# EAGLE library part 6PIN (library connectors)
6pin 2.5mm 0.1inch
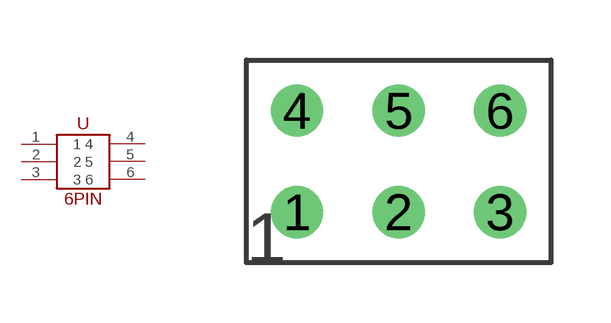
[diagram p1: symbol with the pads of 6PIN_2.5; footprint 6PIN_2.5]

Designator prefix -

## 6PIN  [6PIN_2.5]
1  1
2  2
3  3
4  4
5  5
6  6

## Footprint 6PIN_2.5 (pad centres in mm)
6 pin 2 row 3 column 2.5 mm pitch connector
drill 0.8: 1 0,0; 2 2.54,0; 3 5.08,0; 4 0,2.54; 5 2.54,2.54; 6 5.08,2.54